# Altium footprint library RCDQLY.PCBLIB: 122 footprints (part 4 of 8)
Each footprint in its own frame and in the unit in brackets; x right, y up, seen from the top. Pads: shape width x height; smd on the part's side, far side on the other; paste and mask are expansions set on the pad; w line width, h text height; cw(c..) or ccw(c..) is an arc to the next point about the centre after c.
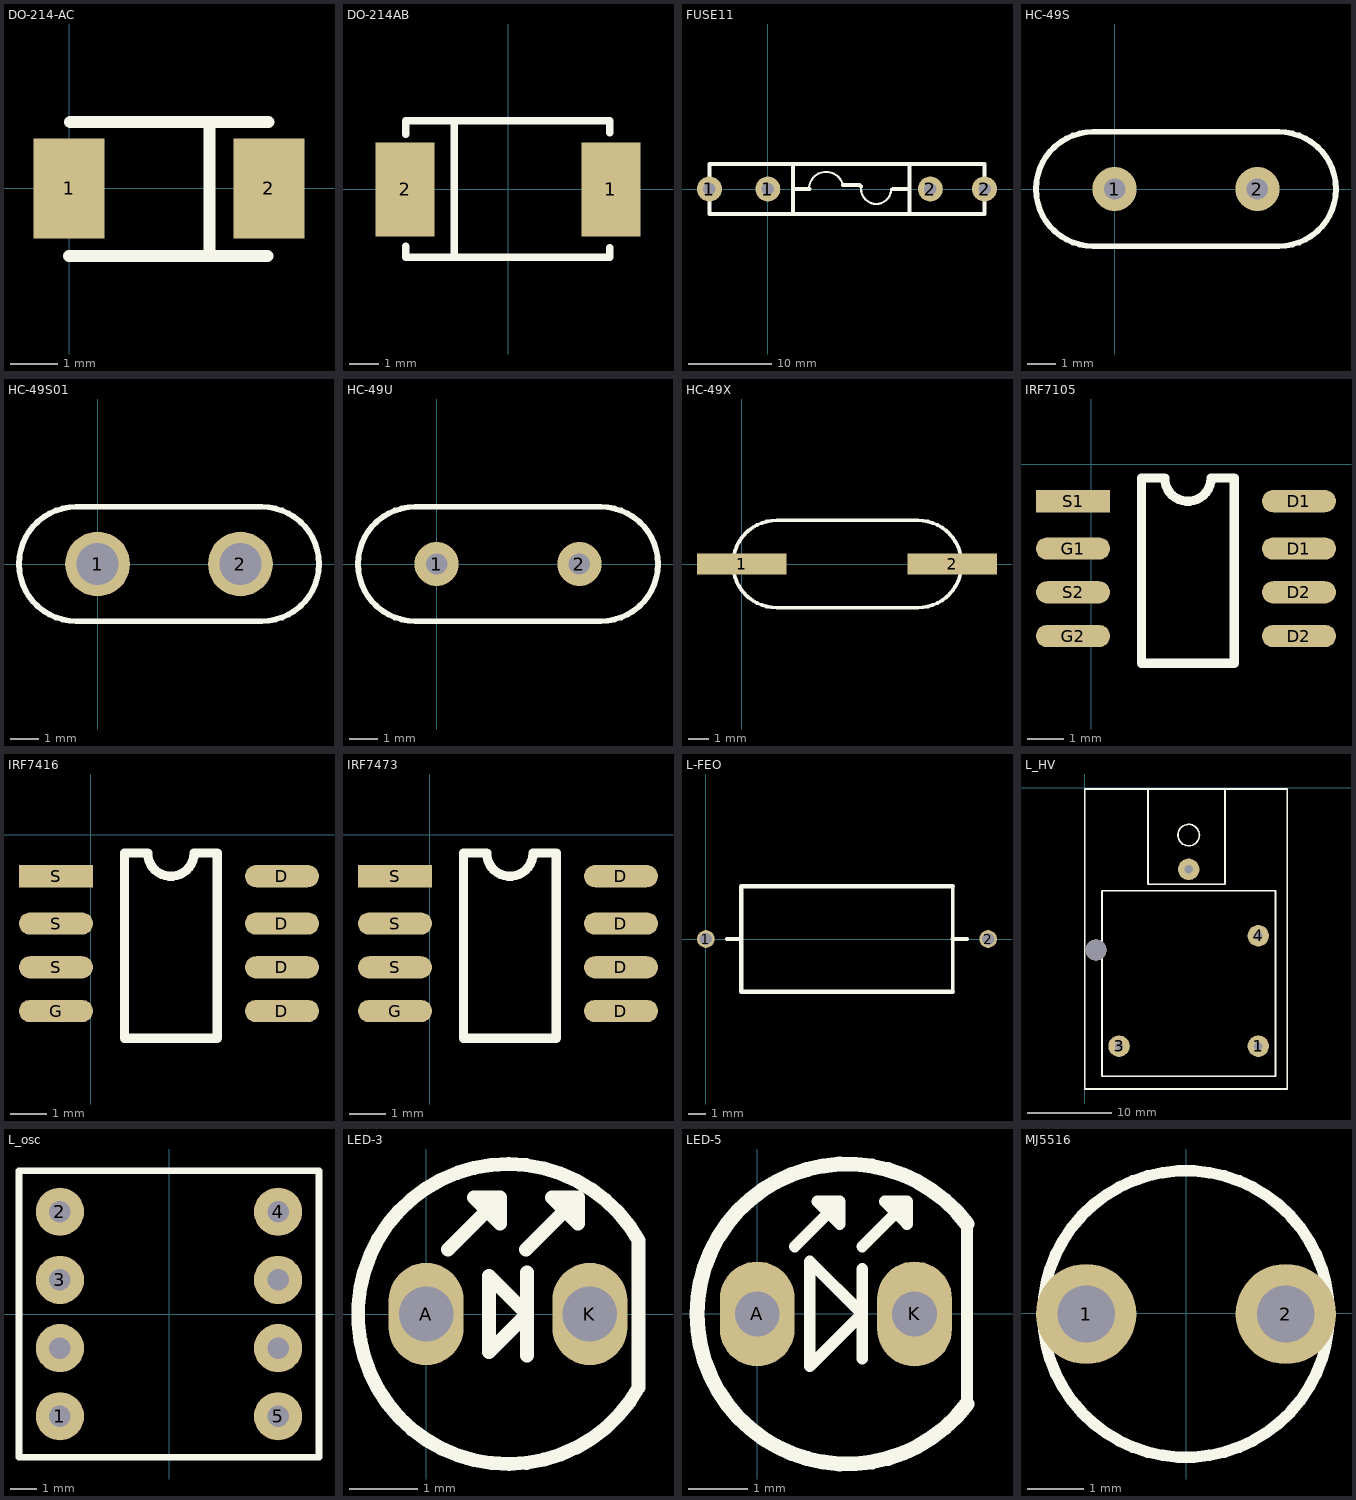
[diagram p3: the footprints below, top view; thin cyan lines are the x and y axes]

## DO-214-AC [mm]
pads (2):
  rect 1.5x2.1 smd: 1(0,0) 2(4.2,0)
TopOverlay:
  lines w0.254: 0,-1.422 4.166,-1.422 ; 0.025,1.397 4.191,1.397 ; 2.946,-1.397 2.946,1.397

## DO-214AB [mm]
pads (2):
  rect 2x3.2 smd: 1(3.5,0) 2(-3.5,0)
TopOverlay:
  lines w0.254: -3.48,-1.93 -3.48,-2.311 3.454,-2.311 3.454,-1.981 ; -3.48,1.88 -3.48,2.337 3.454,2.337 3.454,1.93 ; -1.829,-2.286 -1.829,2.311

## FUSE11 [mm]
pads (4):
  round 3 hole 1.5: 1(-7,0) 1(0,0) 2(19.5,0) 2(26,0)
TopOverlay:
  lines w0.254: 4.938,0 cw(c7,0) 9,0.5 ; 11.197,0 ccw(c13,0) 14.803,0
  lines w0.5: 3,-3 3,3 ; 3,0 5,0 ; 9,0.5 11,0.5 11.197,0.303 ; 15,0 17,0 ; 17,-3 17,3 ; -7,-3 26,-3 26,3 -7,3 -7,-3

## HC-49S [mil]
pads (2):
  round 62 hole 30: 1(0,0) 2(200,0)
TopOverlay:
  lines w8: -30,-80 cw(c-30,0) -30,80 230,80 cw(c230,0) 230,-80 -30,-80

## HC-49S01 [mm]
pads (2):
  round 2.3 hole 1.5: 1(0,0) 2(5.08,0)
TopOverlay:
  lines w0.203: -0.762,-2.032 cw(c-0.762,0) -0.762,2.032 5.842,2.032 cw(c5.842,0) 5.842,-2.032 -0.762,-2.032

## HC-49U [mil]
pads (2):
  round 62 hole 30: 1(0,0) 2(200,0)
TopOverlay:
  lines w8: -30,-80 cw(c-30,0) -30,80 230,80 cw(c230,0) 230,-80 -30,-80

## HC-49X [mm]
pads (2):
  rect 4.3x1 smd: 1(0,0) 2(10.135,0)
TopOverlay:
  lines w0.178: 1.68,-2.1 cw(c1.68,0) 1.68,2.1 8.48,2.1 cw(c8.48,0) 8.48,-2.1 1.68,-2.1

## IRF7105 [mil]
pads (8):
  oval 80x24 smd: D1(224.41,-91.18) D1(224.41,-40) D2(224.41,-185.67) D2(224.41,-138.43) G1(-19.68,-91.18) G2(-19.68,-185.67) S2(-19.68,-138.43)
  rect 80x24 smd: S1(-19.68,-40)
TopOverlay:
  lines w10: 54.39,-215.06 154.39,-215.06 154.39,-15.06 129.39,-15.06 cw(c104.39,-15.06) 79.39,-15.06 54.39,-15.06 54.39,-215.06

## IRF7416 [mil]
pads (8):
  oval 80x24 smd: D(206.41,-190.67) D(206.41,-143.43) D(206.41,-96.18) D(206.41,-45) G(-37.69,-190.67) S(-37.69,-143.43) S(-37.69,-96.18)
  rect 80x24 smd: S(-37.69,-45)
TopOverlay:
  lines w10: 36.39,-220.06 36.39,-20.06 61.39,-20.06 ccw(c86.39,-20.06) 111.39,-20.06 136.39,-20.06 136.39,-220.06 36.39,-220.06

## IRF7473 [mil]
pads (8):
  oval 80x24 smd: D(206.41,-190.67) D(206.41,-143.43) D(206.41,-96.18) D(206.41,-45) G(-37.69,-190.67) S(-37.69,-143.43) S(-37.69,-96.18)
  rect 80x24 smd: S(-37.69,-45)
TopOverlay:
  lines w10: 36.39,-220.06 36.39,-20.06 61.39,-20.06 ccw(c86.39,-20.06) 111.39,-20.06 136.39,-20.06 136.39,-220.06 36.39,-220.06

## L-FEO [mm]
pads (2):
  round 1 hole 0.7: 1(0,0) 2(16,0)
TopOverlay:
  lines w0.2: 14,-3 14,3
  lines w0.254: 1.2,0 2,0 ; 14,-3 2,-3 2,3 14,3 ; 14,0 14.8,0

## L_HV [mil]
pads (4):
  round 100 hole 39: 1(810,-1205) 3(160,-1205) 4(810,-690) ""(485,-380)
via 52,-757 diameter 98 hole 98
TopOverlay:
  circle w8: c485,-220 r50
  lines w8: 295,-5 295,-450 655,-450 655,-5 ; 0,-1405 945,-1405 945,-5 0,-5 0,-1405 ; 80,-1345 890,-1345 890,-480 80,-480 80,-1345

## L_osc [mm]
pads (8):
  round 1.8 hole 0.8: 1(-4.064,-3.81) 2(-4.064,3.81) 3(-4.064,1.27) 4(4.064,3.81) 5(4.064,-3.81) ""(-4.064,-1.27) ""(4.064,-1.27) ""(4.064,1.27)
TopOverlay:
  lines w0.254: -5.588,-5.334 5.588,-5.334 5.588,5.334 -5.588,5.334 -5.588,-5.334

## LED-3 [mm]
pads (2):
  oval 1.1x1.5 hole 0.8: A(0,0) K(2.4,0)
TopOverlay:
  lines w0.203: 0.322,0.946 1.084,1.708 ; 1.465,0.946 2.227,1.708 ; 1.479,-0.61 1.479,0.61 ; 3.116,-1.073 3.116,1.082 ccw(c1.2,0) 3.119,-1.076 ; 1.084,1.708 1.084,1.327 0.703,1.708 1.084,1.708 ; 2.227,1.708 1.846,1.708 2.227,1.327 2.227,1.708 ; 0.921,-0.559 0.921,0.559 1.479,0 0.921,-0.559

## LED-5 [mil]
pads (2):
  oval 50x70 hole 30: A(0,0) K(105,0)
TopOverlay:
  lines w7.78: 25,45 55,75 ; 70,-30 70,30 ; 70,45 100,75 ; 140,-60.15 140,60 ; 55,75 55,60 40,75 55,75 ; 100,75 100,60 85,75 100,75 ; 35,-35 35,35 70,0 35,-35
  lines w10: 140,-60.15 cw(c59.9,-0.07) 140,60

## MJ5516 [mil]
pads (2):
  round 70 hole 40: 1(-69.69,-0.35) 2(69.68,-0.35)
TopOverlay:
  circle w8: c0,-0.35 r100